# EAGLE library part MSP430FR2311IPW16 (library counter)
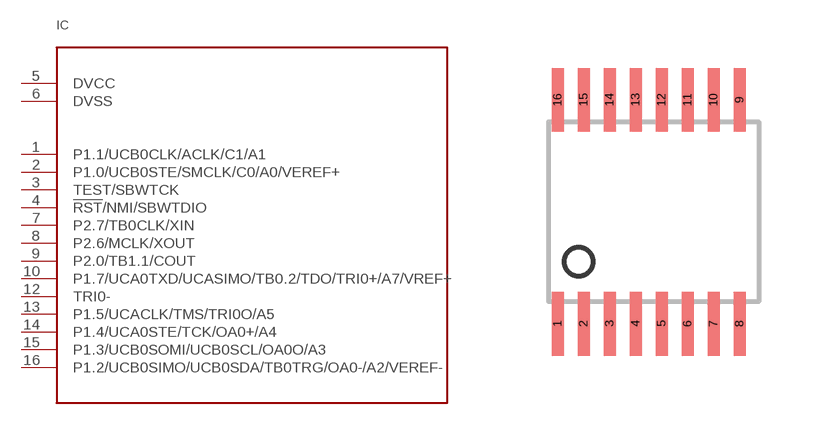
[diagram p1: symbol with the pads of TSSOP-16; footprint TSSOP-16]

Designator prefix IC

## MSP430FR2311IPW16  [TSSOP-16]
1  P1.1/UCB0CLK/ACLK/C1/A1
2  P1.0/UCB0STE/SMCLK/C0/A0/VEREF+
3  TEST/SBWTCK
4  !RST!/NMI/SBWTDIO
5  DVCC
6  DVSS
7  P2.7/TB0CLK/XIN
8  P2.6/MCLK/XOUT
9  P2.0/TB1.1/COUT
10  P1.7/UCA0TXD/UCASIMO/TB0.2/TDO/TRI0+/A7/VREF+
12  TRI0-
13  P1.5/UCACLK/TMS/TRI0O/A5
14  P1.4/UCA0STE/TCK/OA0+/A4
15  P1.3/UCB0SOMI/UCB0SCL/OA0O/A3
16  P1.2/UCB0SIMO/UCB0SDA/TB0TRG/OA0-/A2/VEREF-

## Footprint TSSOP-16 (pad centres in mm)
smd 0.3 x 1.6: 1 -2.275,-2.8; 2 -1.625,-2.8; 3 -0.975,-2.8; 4 -0.325,-2.8; 5 0.325,-2.8; 6 0.975,-2.8; 7 1.625,-2.8; 8 2.275,-2.8; 9 2.275,2.8; 10 1.625,2.8; 11 0.975,2.8; 12 0.325,2.8; 13 -0.325,2.8; 14 -0.975,2.8; 15 -1.625,2.8; 16 -2.275,2.8